# EAGLE library part 74XX125 (library packages(ti))
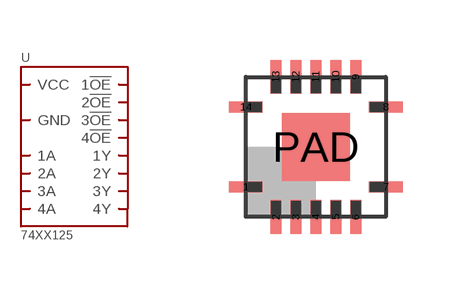
[diagram p21: symbol with the pads of RGY.14; footprint RGY.14]

Designator prefix -

## 74XX125.RGY  [RGY.14]
1  1!OE
2  1A
3  1Y
4  2!OE
5  2A
6  2Y
7  GND
8  3Y
9  3A
10  3!OE
11  4Y
12  4A
13  4!OE
14  VCC
PAD  GND

## Footprint RGY.14 (pad centres in mm)
smd 0.85 x 0.28: 1 -1.755,-1; 7 1.755,-1; 8 1.755,1; 14 -1.755,1
smd 0.28 x 0.85: 2 -1,-1.755; 3 -0.5,-1.755; 4 0,-1.755; 5 0.5,-1.755; 6 1,-1.755; 9 1,1.755; 10 0.5,1.755; 11 0,1.755; 12 -0.5,1.755; 13 -1,1.755
smd 1.7 x 1.7: PAD 0,0